# Altium footprint library STM32-V5_PCB封装(AD10).PcbLib: 68 footprints (part 4 of 5)
Each footprint in its own frame and in the unit in brackets; x right, y up, seen from the top. Pads: shape width x height; smd on the part's side, far side on the other; paste and mask are expansions set on the pad; w line width, h text height; cw(c..) or ccw(c..) is an arc to the next point about the centre after c.
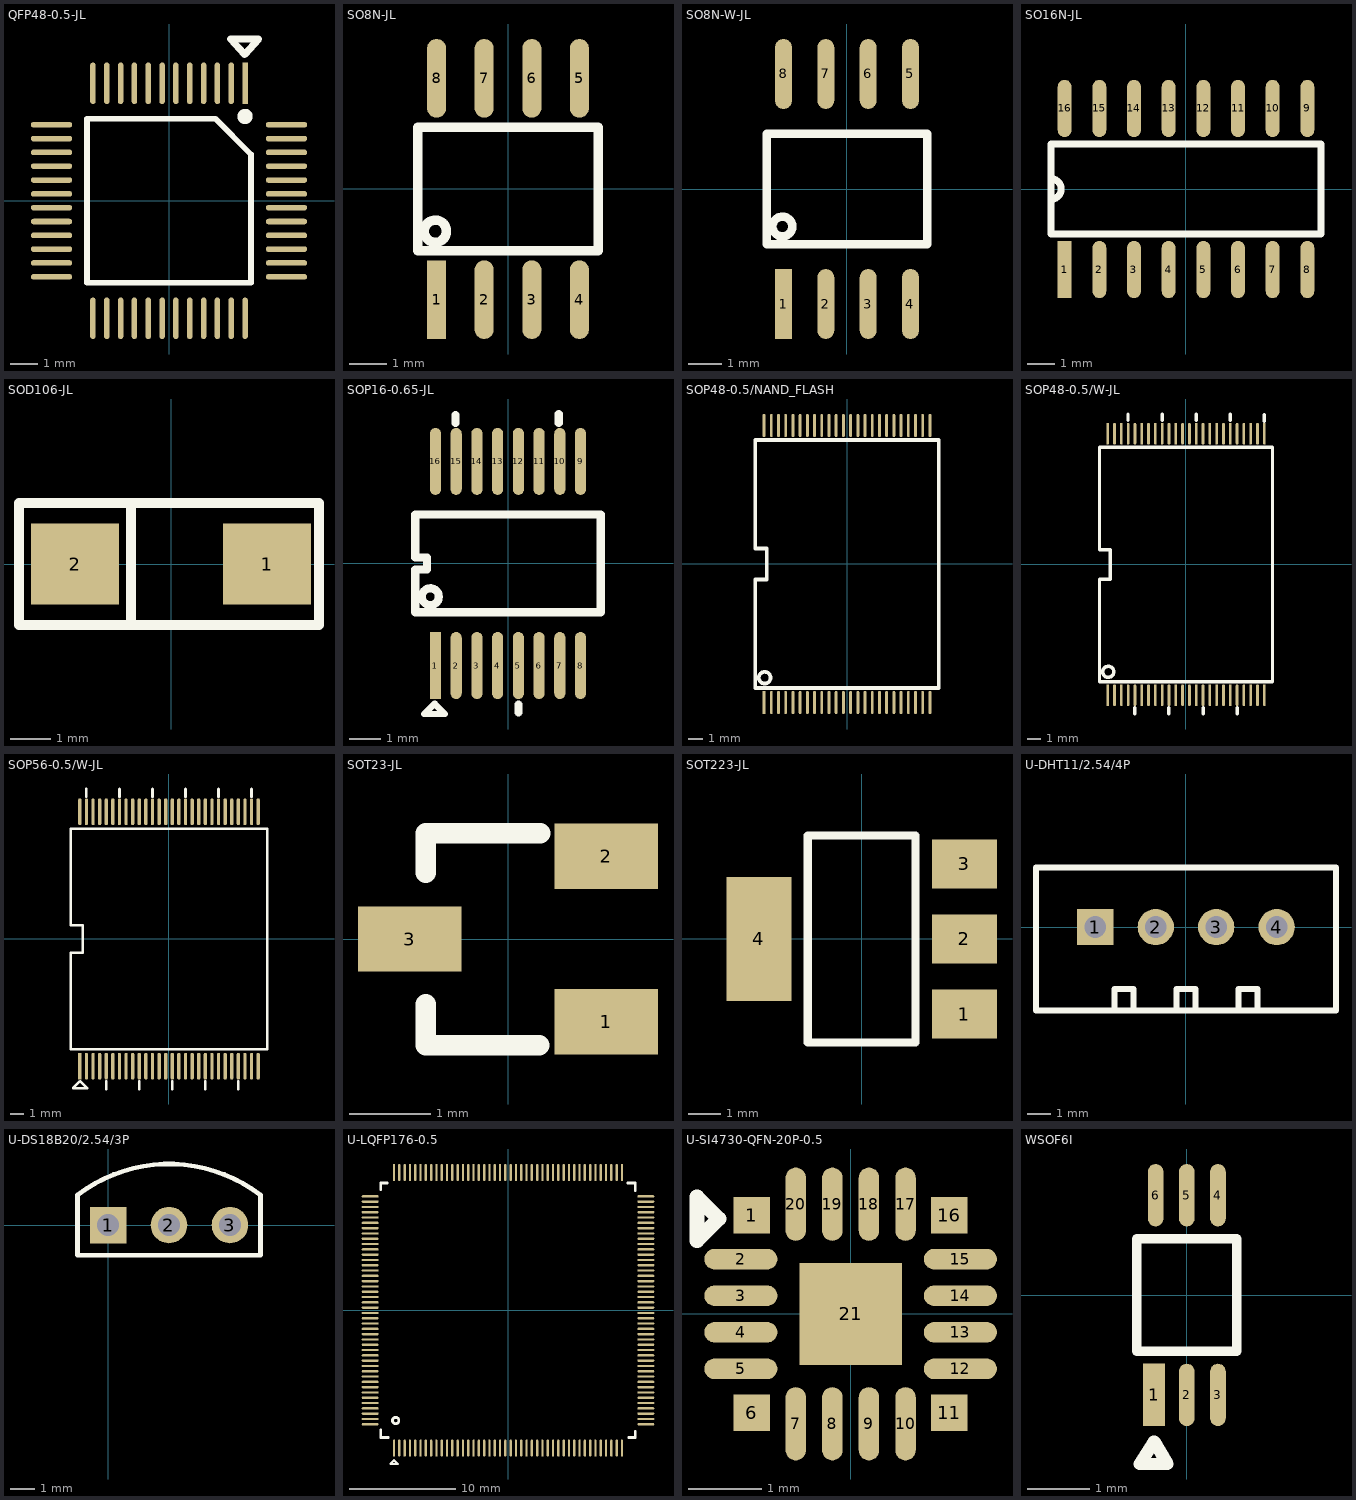
[diagram p3: the footprints below, top view; thin cyan lines are the x and y axes]

## QFP48-0.5-JL [mm]
pads (48):
  rect 0.2x1.5 smd: 1(2.75,4.25)
  oval 0.2x1.5 smd: 2(2.25,4.25) 3(1.75,4.25) 4(1.25,4.25) 5(0.75,4.25) 6(0.25,4.25) 7(-0.25,4.25) 8(-0.75,4.25) 9(-1.25,4.25) 10(-1.75,4.25) 11(-2.25,4.25) 12(-2.75,4.25) 25(-2.75,-4.25) 26(-2.25,-4.25) 27(-1.75,-4.25) 28(-1.25,-4.25) 29(-0.75,-4.25) 30(-0.25,-4.25) 31(0.25,-4.25) 32(0.75,-4.25) 33(1.25,-4.25) 34(1.75,-4.25) 35(2.25,-4.25) 36(2.75,-4.25)
  oval 1.5x0.2 smd: 13(-4.25,2.75) 14(-4.25,2.25) 15(-4.25,1.75) 16(-4.25,1.25) 17(-4.25,0.75) 18(-4.25,0.25) 19(-4.25,-0.25) 20(-4.25,-0.75) 21(-4.25,-1.25) 22(-4.25,-1.75) 23(-4.25,-2.25) 24(-4.25,-2.75) 37(4.25,-2.75) 38(4.25,-2.25) 39(4.25,-1.75) 40(4.25,-1.25) 41(4.25,-0.75) 42(4.25,-0.25) 43(4.25,0.25) 44(4.25,0.75) 45(4.25,1.25) 46(4.25,1.75) 47(4.25,2.25) 48(4.25,2.75)
Top Overlay:
  circle w0.354: c2.75,3.05 r0.1
  lines w0.203: -2.965,-2.965 2.965,-2.965 2.965,1.68 1.68,2.965 -2.965,2.965 -2.965,-2.965
  lines w0.254: 2.227,5.852 3.243,5.852 2.735,5.296 2.227,5.852

## SO8N-JL [mm]
pads (8):
  rect 0.508x2.1 smd: 1(-1.905,-2.95)
  oval 0.508x2.1 smd: 2(-0.635,-2.95) 3(0.635,-2.95) 4(1.905,-2.95) 5(1.905,2.95) 6(0.635,2.95) 7(-0.635,2.95) 8(-1.905,2.95)
Top Overlay:
  circle w0.254: c-1.939,-1.126 r0.298
  lines w0.254: -2.413,-1.651 -2.413,1.651 2.413,1.651 2.413,-1.651 -2.413,-1.651

## SO8N-W-JL [mm]
pads (8):
  rect 0.508x2.1 smd: 1(-1.905,-3.45)
  oval 0.508x2.1 smd: 2(-0.635,-3.45) 3(0.635,-3.45) 4(1.905,-3.45) 5(1.905,3.45) 6(0.635,3.45) 7(-0.635,3.45) 8(-1.905,3.45)
Top Overlay:
  circle w0.254: c-1.939,-1.126 r0.298
  lines w0.254: -2.413,-1.651 -2.413,1.651 2.413,1.651 2.413,-1.651 -2.413,-1.651

## SO16N-JL [mm]
pads (16):
  rect 0.508x2.1 smd: 1(-4.445,-2.95)
  oval 0.508x2.1 smd: 2(-3.175,-2.95) 3(-1.905,-2.95) 4(-0.635,-2.95) 5(0.635,-2.95) 6(1.905,-2.95) 7(3.175,-2.95) 8(4.445,-2.95) 9(4.445,2.95) 10(3.175,2.95) 11(1.905,2.95) 12(0.635,2.95) 13(-0.635,2.95) 14(-1.905,2.95) 15(-3.175,2.95) 16(-4.445,2.95)
Top Overlay:
  lines w0.254: -4.953,-0.381 ccw(c-4.953,0) -4.953,0.381 ; -4.953,-1.651 -4.953,1.651 4.953,1.651 4.953,-1.651 -4.953,-1.651

## SOD106-JL [mm]
pads (2):
  rect 2.2x2.032 smd: 1(2.4,0) 2(-2.4,0)
Top Overlay:
  lines w0.254: -1,-1.524 -1,1.397 ; -3.8,-1.524 3.7,-1.524 3.7,1.524 -3.8,1.524 -3.8,-1.524

## SOP16-0.65-JL [mm]
pads (16):
  rect 0.35x2.1 smd: 1(-2.275,-3.2)
  oval 0.35x2.1 smd: 2(-1.625,-3.2) 3(-0.975,-3.2) 4(-0.325,-3.2) 5(0.325,-3.2) 6(0.975,-3.2) 7(1.625,-3.2) 8(2.275,-3.2) 9(2.275,3.2) 10(1.625,3.2) 11(0.975,3.2) 12(0.325,3.2) 13(-0.325,3.2) 14(-0.975,3.2) 15(-1.625,3.2) 16(-2.275,3.2)
Top Overlay:
  circle w0.254: c-2.435,-1.043 r0.265
  lines w0.2: -2.63,-4.72 -1.98,-4.72 -2.305,-4.395 -2.3,-4.395 -2.3,-4.39 -2.63,-4.72
  lines w0.254: -1.641,4.406 -1.641,4.654 ; 0.326,-4.674 0.326,-4.426 ; 1.593,4.41 1.593,4.687 ; -2.91,-1.53 2.91,-1.53 2.91,1.53 -2.91,1.53 -2.91,0.191 -2.546,0.191 -2.546,-0.191 -2.91,-0.191 -2.91,-1.53

## SOP48-0.5/NAND_FLASH [mm]
pads (48):
  rect 0.2x1.6 smd: 1(-5.75,-9.6)
  oval 0.2x1.6 smd: 2(-5.25,-9.6) 3(-4.75,-9.6) 4(-4.25,-9.6) 5(-3.75,-9.6) 6(-3.25,-9.6) 7(-2.75,-9.6) 8(-2.25,-9.6) 9(-1.75,-9.6) 10(-1.25,-9.6) 11(-0.75,-9.6) 12(-0.25,-9.6) 13(0.25,-9.6) 14(0.75,-9.6) 15(1.25,-9.6) 16(1.75,-9.6) 17(2.25,-9.6) 18(2.75,-9.6) 19(3.25,-9.6) 20(3.75,-9.6) 21(4.25,-9.6) 22(4.75,-9.6) 23(5.25,-9.6) 24(5.75,-9.6) 25(5.75,9.6) 26(5.25,9.6) 27(4.75,9.6) 28(4.25,9.6) 29(3.75,9.6) 30(3.25,9.6) 31(2.75,9.6) 32(2.25,9.6) 33(1.75,9.6) 34(1.25,9.6) 35(0.75,9.6) 36(0.25,9.6) 37(-0.25,9.6) 38(-0.75,9.6) 39(-1.25,9.6) 40(-1.75,9.6) 41(-2.25,9.6) 42(-2.75,9.6) 43(-3.25,9.6) 44(-3.75,9.6) 45(-4.25,9.6) 46(-4.75,9.6) 47(-5.25,9.6) 48(-5.75,9.6)
Top Overlay:
  circle w0.254: c-5.708,-7.883 r0.407
  lines w0.254: -6.35,-8.6 6.35,-8.6 6.35,8.6 -6.35,8.6 -6.35,1.075 -5.556,1.075 -5.556,-1.075 -6.35,-1.075 -6.35,-8.6
Drill Drawing:
  lines w0.254: -6.4,-9.2 -6.15,-9.2 ; -6.4,9.2 -6.15,9.2 ; 6.1,-9.2 6.4,-9.2 ; 6.1,9.2 6.35,9.2

## SOP48-0.5/W-JL [mm]
pads (48):
  rect 0.2x1.6 smd: 1(-5.75,-9.6)
  oval 0.2x1.6 smd: 2(-5.25,-9.6) 3(-4.75,-9.6) 4(-4.25,-9.6) 5(-3.75,-9.6) 6(-3.25,-9.6) 7(-2.75,-9.6) 8(-2.25,-9.6) 9(-1.75,-9.6) 10(-1.25,-9.6) 11(-0.75,-9.6) 12(-0.25,-9.6) 13(0.25,-9.6) 14(0.75,-9.6) 15(1.25,-9.6) 16(1.75,-9.6) 17(2.25,-9.6) 18(2.75,-9.6) 19(3.25,-9.6) 20(3.75,-9.6) 21(4.25,-9.6) 22(4.75,-9.6) 23(5.25,-9.6) 24(5.75,-9.6) 25(5.75,9.6) 26(5.25,9.6) 27(4.75,9.6) 28(4.25,9.6) 29(3.75,9.6) 30(3.25,9.6) 31(2.75,9.6) 32(2.25,9.6) 33(1.75,9.6) 34(1.25,9.6) 35(0.75,9.6) 36(0.25,9.6) 37(-0.25,9.6) 38(-0.75,9.6) 39(-1.25,9.6) 40(-1.75,9.6) 41(-2.25,9.6) 42(-2.75,9.6) 43(-3.25,9.6) 44(-3.75,9.6) 45(-4.25,9.6) 46(-4.75,9.6) 47(-5.25,9.6) 48(-5.75,9.6)
Top Overlay:
  circle w0.254: c-5.708,-7.883 r0.407
  lines w0.254: -4.257,10.57 -4.257,11.026 ; -3.752,-10.98 -3.752,-10.523 ; -1.757,10.57 -1.757,11.026 ; -1.252,-10.98 -1.252,-10.523 ; 0.743,10.57 0.743,11.026 ; 0.747,10.59 0.747,11.046 ; 1.248,-10.98 1.248,-10.523 ; 1.252,-10.96 1.252,-10.503 ; 3.247,10.59 3.247,11.046 ; 3.752,-10.96 3.752,-10.503 ; 5.742,10.526 5.742,10.982 ; -6.35,-8.6 6.35,-8.6 6.35,8.6 -6.35,8.6 -6.35,1.075 -5.556,1.075 -5.556,-1.075 -6.35,-1.075 -6.35,-8.6

## SOP56-0.5/W-JL [mil]
pads (56):
  rect 10x80 smd: 1(-265.75,-379)
  oval 10x80 smd: 2(-246.06,-379) 3(-226.38,-379) 4(-206.69,-379) 5(-187.01,-379) 6(-167.32,-379) 7(-147.64,-379) 8(-127.95,-379) 9(-108.27,-379) 10(-88.58,-379) 11(-68.9,-379) 12(-49.21,-379) 13(-29.53,-379) 14(-9.84,-379) 15(9.84,-379) 16(29.53,-379) 17(49.21,-379) 18(68.9,-379) 19(88.58,-379) 20(108.27,-379) 21(127.95,-379) 22(147.64,-379) 23(167.32,-379) 24(187.01,-379) 25(206.69,-379) 26(226.38,-379) 27(246.06,-379) 28(265.75,-379) 29(265.75,379) 30(246.06,379) 31(226.38,379) 32(206.69,379) 33(187.01,379) 34(167.32,379) 35(147.64,379) 36(127.95,379) 37(108.27,379) 38(88.58,379) 39(68.9,379) 40(49.21,379) 41(29.53,379) 42(9.84,379) 43(-9.84,379) 44(-29.53,379) 45(-49.21,379) 46(-68.9,379) 47(-88.58,379) 48(-108.27,379) 49(-127.95,379) 50(-147.64,379) 51(-167.32,379) 52(-187.01,379) 53(-206.69,379) 54(-226.38,379) 55(-246.06,379) 56(-265.75,379)
Top Overlay:
  lines w7.87: -266,-425 -285.5,-444.5 -244,-444.5 -264.25,-424.25 ; -246.13,424 -246.13,447 ; -187,-447 -187,-424 ; -147.7,424 -147.7,447 ; -88.58,-447 -88.58,-424 ; -49.28,424 -49.28,447 ; 9.85,-447 9.85,-424 ; 49.15,424 49.15,447 ; 108.28,-447 108.28,-424 ; 147.57,424 147.57,447 ; 206.7,-447 206.7,-424 ; 246,424 246,447 ; -293.31,-329 293.31,-329 293.31,329 -293.31,329 -293.31,41.13 -256.64,41.13 -256.64,-41.12 -293.31,-41.12 -293.31,-329

## SOT23-JL [mm]
pads (3):
  rect 1.27x0.8 smd: 1(1.205,-1.015) 2(1.205,1.015) 3(-1.205,0)
Top Overlay:
  lines w0.254: -1.009,-0.803 -1.009,-1.303 0.383,-1.303 ; -1.009,0.811 -1.009,1.297 0.392,1.297

## SOT223-JL [mm]
pads (4):
  rect 2x1.5 smd: 1(3.15,-2.3) 2(3.15,0) 3(3.15,2.3)
  rect 2x3.8 smd: 4(-3.15,0)
Top Overlay:
  lines w0.254: -1.651,-3.175 -1.651,3.175 1.651,3.175 1.651,-3.175 -1.651,-3.175

## U-DHT11/2.54/4P [mil]
pads (4):
  rect 60x60 / inner round 60 / far side round 60 hole 36: 1(-150,0)
  round 60 hole 36: 2(-50,0) 3(50,0)
  round 60 / inner rect 60x60 / far side rect 60x60 hole 36: 4(150,0)
Top Overlay:
  lines w10: -248.03,-137.79 -248.03,98.43 248.03,98.43 248.03,-137.79 -248.03,-137.79 ; -118.11,-137.79 -118.11,-102.36 -86.61,-102.36 -86.61,-137.79 -118.11,-137.79 ; -15.75,-137.79 -15.75,-102.36 15.75,-102.36 15.75,-137.79 -15.75,-137.79 ; 86.61,-137.79 86.61,-102.36 118.11,-102.36 118.11,-137.79 86.61,-137.79

## U-DS18B20/2.54/3P [mil]
pads (3):
  rect 60x60 hole 36: 1(0,0)
  round 60 hole 36: 2(100,0) 3(200,0)
Top Overlay:
  lines w7.87: -50,49.25 -50,-49.53 250,-49.53 250,49.25 ; -49.92,49.31 cw(c100,-146.07) 249.92,49.31

## U-LQFP176-0.5 [mm]
pads (176):
  oval 0.22x1.6 smd: 1(-10.75,-13) 2(-10.25,-13) 3(-9.75,-13) 4(-9.25,-13) 5(-8.75,-13) 6(-8.25,-13) 7(-7.75,-13) 8(-7.25,-13) 9(-6.75,-13) 10(-6.25,-13) 11(-5.75,-13) 12(-5.25,-13) 13(-4.75,-13) 14(-4.25,-13) 15(-3.75,-13) 16(-3.25,-13) 17(-2.75,-13) 18(-2.25,-13) 19(-1.75,-13) 20(-1.25,-13) 21(-0.75,-13) 22(-0.25,-13) 23(0.25,-13) 24(0.75,-13) 25(1.25,-13) 26(1.75,-13) 27(2.25,-13) 28(2.75,-13) 29(3.25,-13) 30(3.75,-13) 31(4.25,-13) 32(4.75,-13) 33(5.25,-13) 34(5.75,-13) 35(6.25,-13) 36(6.75,-13) 37(7.25,-13) 38(7.75,-13) 39(8.25,-13) 40(8.75,-13) 41(9.25,-13) 42(9.75,-13) 43(10.25,-13) 44(10.75,-13) 89(10.75,13) 90(10.25,13) 91(9.75,13) 92(9.25,13) 93(8.75,13) 94(8.25,13) 95(7.75,13) 96(7.25,13) 97(6.75,13) 98(6.25,13) 99(5.75,13) 100(5.25,13) 101(4.75,13) 102(4.25,13) 103(3.75,13) 104(3.25,13) 105(2.75,13) 106(2.25,13) 107(1.75,13) 108(1.25,13) 109(0.75,13) 110(0.25,13) 111(-0.25,13) 112(-0.75,13) 113(-1.25,13) 114(-1.75,13) 115(-2.25,13) 116(-2.75,13) 117(-3.25,13) 118(-3.75,13) 119(-4.25,13) 120(-4.75,13) 121(-5.25,13) 122(-5.75,13) 123(-6.25,13) 124(-6.75,13) 125(-7.25,13) 126(-7.75,13) 127(-8.25,13) 128(-8.75,13) 129(-9.25,13) 130(-9.75,13) 131(-10.25,13) 132(-10.75,13)
  oval 1.6x0.22 smd: 45(13,-10.75) 46(13,-10.25) 47(13,-9.75) 48(13,-9.25) 49(13,-8.75) 50(13,-8.25) 51(13,-7.75) 52(13,-7.25) 53(13,-6.75) 54(13,-6.25) 55(13,-5.75) 56(13,-5.25) 57(13,-4.75) 58(13,-4.25) 59(13,-3.75) 60(13,-3.25) 61(13,-2.75) 62(13,-2.25) 63(13,-1.75) 64(13,-1.25) 65(13,-0.75) 66(13,-0.25) 67(13,0.25) 68(13,0.75) 69(13,1.25) 70(13,1.75) 71(13,2.25) 72(13,2.75) 73(13,3.25) 74(13,3.75) 75(13,4.25) 76(13,4.75) 77(13,5.25) 78(13,5.75) 79(13,6.25) 80(13,6.75) 81(13,7.25) 82(13,7.75) 83(13,8.25) 84(13,8.75) 85(13,9.25) 86(13,9.75) 87(13,10.25) 88(13,10.75) 133(-13,10.75) 134(-13,10.25) 135(-13,9.75) 136(-13,9.25) 137(-13,8.75) 138(-13,8.25) 139(-13,7.75) 140(-13,7.25) 141(-13,6.75) 142(-13,6.25) 143(-13,5.75) 144(-13,5.25) 145(-13,4.75) 146(-13,4.25) 147(-13,3.75) 148(-13,3.25) 149(-13,2.75) 150(-13,2.25) 151(-13,1.75) 152(-13,1.25) 153(-13,0.75) 154(-13,0.25) 155(-13,-0.25) 156(-13,-0.75) 157(-13,-1.25) 158(-13,-1.75) 159(-13,-2.25) 160(-13,-2.75) 161(-13,-3.25) 162(-13,-3.75) 163(-13,-4.25) 164(-13,-4.75) 165(-13,-5.25) 166(-13,-5.75) 167(-13,-6.25) 168(-13,-6.75) 169(-13,-7.25) 170(-13,-7.75) 171(-13,-8.25) 172(-13,-8.75) 173(-13,-9.25) 174(-13,-9.75) 175(-13,-10.25) 176(-13,-10.75)
Top Overlay:
  circle w0.254: c-10.6,-10.4 r0.3
  lines w0.2: -11.1,-14.5 -10.4,-14.5 -10.75,-14.15 -11.1,-14.5
  lines w0.254: -12,-11.3 -12,-12 -11.3,-12 ; -12,11.4 -12,12 -11.4,12 ; 11.3,12 12,12 12,11.3 ; 11.4,-12 12,-12 12,-11.4

## U-SI4730-QFN-20P-0.5 [mm]
pads (21):
  rect 0.5x0.5 smd: 1(-1.35,1.35) 6(-1.35,-1.35) 11(1.35,-1.35) 16(1.35,1.35)
  oval 1x0.28 smd: 2(-1.5,0.75) 3(-1.5,0.25) 4(-1.5,-0.25) 5(-1.5,-0.75) 12(1.5,-0.75) 13(1.5,-0.25) 14(1.5,0.25) 15(1.5,0.75)
  oval 0.28x1 smd: 7(-0.75,-1.5) 8(-0.25,-1.5) 9(0.25,-1.5) 10(0.75,-1.5) 17(0.75,1.5) 18(0.25,1.5) 19(-0.25,1.5) 20(-0.75,1.5)
  rect 1.4x1.4 smd: 21(0,0)
Top Overlay:
  lines w0.2: -2.1,1 -1.8,1.3 -2.1,1.6 -2.1,1

## WSOF6I [mm]
pads (6):
  rect 0.35x1 smd: 1(-0.525,-1.6)
  oval 0.25x1 smd: 2(0,-1.6) 3(0.5,-1.6) 4(0.5,1.6) 5(0,1.6) 6(-0.5,1.6)
Top Overlay:
  lines w0.152: -0.8,-0.9 -0.8,0.9 0.8,0.9 0.8,-0.9 -0.8,-0.9
  lines w0.2: -0.75,-2.708 -0.31,-2.708 -0.519,-2.353 -0.531,-2.353 -0.75,-2.708